# EAGLE library part XTR111AIDGQT (library debauer_ics)
Precision Voltage-to-Current Converter/Transmitter
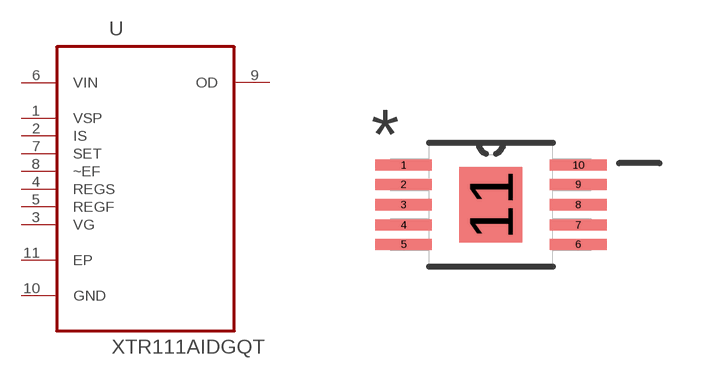
[diagram p16: symbol with the pads of SOP50P490X120-15N; footprint SOP50P490X120-15N]

Designator prefix U

## XTR111AIDGQT (MPN: XTR111AIDGQT; OC_FARNELL: 1703441; OC_NEWARK: 54M7931; PACKAGE: MSOP-10; SUPPLIER: TEXAS INSTRUMENTS)  [SOP50P490X120-15N]
1  VSP  pwr
2  IS  in
3  VG  out
4  REGS  in
5  REGF  in
6  VIN  in
7  SET  in
8  ~EF  in
9  OD  out
10  GND  pas
11  EP  pas

## Footprint SOP50P490X120-15N (pad centres in mm)
smd 1.422 x 0.279: 1 -2.184,0.991; 2 -2.184,0.508; 3 -2.184,0; 4 -2.184,-0.508; 5 -2.184,-0.991; 6 2.184,-0.991; 7 2.184,-0.508; 8 2.184,0; 9 2.184,0.508; 10 2.184,0.991
smd 1.575 x 1.88: 11 0,0